# Altium schematic symbol library MQ136.SchLib: 1 symbol
Pins are listed as number, name and electrical type; pins without a type are passive.

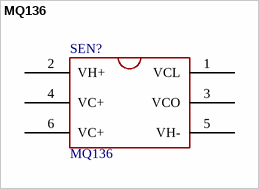
[diagram p0: symbol MQ136]

## MQ136
designator SEN?
Hydrogen Sulfide Sensor
footprint MQ136
pins: 1 VCL, 2 VH+, 3 VCO, 4 VC+, 5 VH-, 6 VC+